# Altium footprint library My PCB Library.PcbLib: 24 footprints (part 2 of 2)
Each footprint in its own frame and in the unit in brackets; x right, y up, seen from the top. Pads: shape width x height; smd on the part's side, far side on the other; paste and mask are expansions set on the pad; w line width, h text height; cw(c..) or ccw(c..) is an arc to the next point about the centre after c.
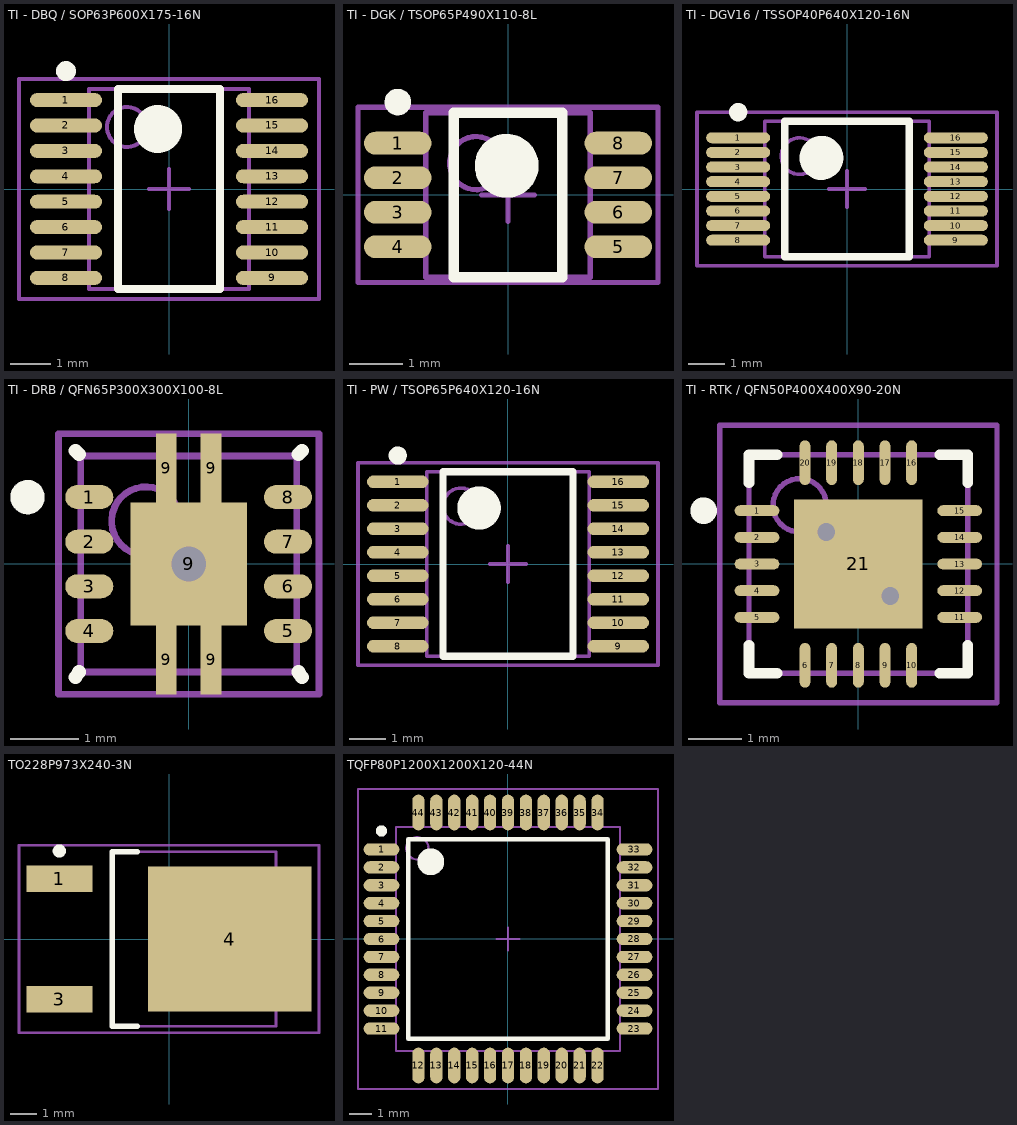
[diagram p1: the footprints below, top view; thin cyan lines are the x and y axes]

## TI - DBQ / SOP63P600X175-16N [mm] "SOP, 16-Leads, Body 5.0x4.0mm (max), Pitch 0.63mm, IPC Medium Density"
height 1.75
pads (16):
  oval 1.8x0.35 smd: 1(-2.575,2.222) 2(-2.575,1.587) 3(-2.575,0.953) 4(-2.575,0.318) 5(-2.575,-0.318) 6(-2.575,-0.953) 7(-2.575,-1.587) 8(-2.575,-2.222) 9(2.575,-2.222) 10(2.575,-1.587) 11(2.575,-0.953) 12(2.575,-0.318) 13(2.575,0.318) 14(2.575,0.953) 15(2.575,1.587) 16(2.575,2.222)
Top Overlay:
  circle w0.6: c-0.275,1.5 r0.3
  circle w0.25: c-2.575,2.947 r0.125
  lines w0.2: -1.275,-2.5 1.275,-2.5 1.275,2.5 -1.275,2.5 -1.275,-2.5
Mechanical 13:
  circle w0.1: c-1.05,1.55 r0.5
  lines w0.1: -2,-2.5 2,-2.5 2,2.5 -2,2.5 -2,-2.5
Mechanical 15:
  lines w0.1: -0.5,0 0.5,0 ; 0,-0.5 0,0.5 ; -3.75,-2.75 3.75,-2.75 3.75,2.75 -3.75,2.75 -3.75,-2.75
3D body: height 1.75, standoff 0.1, extent -2,-2.5 2,2.5

## TI - DGK / TSOP65P490X110-8L [mm] "TSOP, 8-Leads, Body 3.1x3.1mm (max), Pitch 0.65mm, IPC High Density"
height 1.1
pads (8):
  oval 1.27x0.432 smd: 1(-2.075,0.975) 2(-2.075,0.325) 3(-2.075,-0.325) 4(-2.075,-0.975) 5(2.075,-0.975) 6(2.075,-0.325) 7(2.075,0.325) 8(2.075,0.975)
Top Overlay:
  circle w0.6: c-0.025,0.55 r0.3
  circle w0.25: c-2.075,1.75 r0.125
  lines w0.2: -1.025,-1.55 1.025,-1.55 1.025,1.55 -1.025,1.55 -1.025,-1.55
Mechanical 13:
  circle w0.1: c-0.6,0.6 r0.5
  lines w0.1: -1.55,-1.55 1.55,-1.55 1.55,1.55 -1.55,1.55 -1.55,-1.55
Mechanical 15:
  lines w0.1: -0.5,0 0.5,0 ; 0,-0.5 0,0.5 ; -2.825,-1.65 2.825,-1.65 2.825,1.65 -2.825,1.65 -2.825,-1.65
3D body: height 1.1, standoff 0.25, extent -1.55,-1.55 1.55,1.55

## TI - DGV16 / TSSOP40P640X120-16N [mm] "TSSOP, 16-Leads, Body 3.7x4.5mm (max), Pitch 0.40mm, IPC Medium Density"
height 1.2
pads (16):
  oval 1.75x0.3 smd: 1(-2.975,1.4) 2(-2.975,1) 3(-2.975,0.6) 4(-2.975,0.2) 5(-2.975,-0.2) 6(-2.975,-0.6) 7(-2.975,-1) 8(-2.975,-1.4) 9(2.975,-1.4) 10(2.975,-1) 11(2.975,-0.6) 12(2.975,-0.2) 13(2.975,0.2) 14(2.975,0.6) 15(2.975,1) 16(2.975,1.4)
Top Overlay:
  circle w0.25: c-2.975,2.1 r0.125
  circle w0.6: c-0.7,0.85 r0.3
  lines w0.2: -1.7,-1.85 -1.7,1.85 1.7,1.85 1.7,-1.85 -1.7,-1.85
Mechanical 13:
  circle w0.1: c-1.3,0.9 r0.5
  lines w0.1: -2.25,-1.85 -2.25,1.85 2.25,1.85 2.25,-1.85 -2.25,-1.85
Mechanical 15:
  lines w0.1: -0.5,0 0.5,0 ; 0,-0.5 0,0.5 ; -4.1,-2.1 -4.1,2.1 4.1,2.1 4.1,-2.1 -4.1,-2.1
3D body: height 1.2, standoff 0.15, extent -2.25,-1.85 2.25,1.85

## TI - DRB / QFN65P300X300X100-8L [mm] "QFN, 8-Leads, Body 3.2x3.2mm (max), Pitch 0.65mm, IPC High Density"
height 1
pads (13):
  oval 0.7x0.35 smd: 1(-1.45,0.975) 2(-1.45,0.325) 3(-1.45,-0.325) 4(-1.45,-0.975) 5(1.45,-0.975) 6(1.45,-0.325) 7(1.45,0.325) 8(1.45,0.975)
  rect 0.3x1 smd: 9(-0.325,-1.4) 9(-0.325,1.4) 9(0.325,-1.4) 9(0.325,1.4)
  rect 1.7x1.8 smd: 9(0,0)
via 0,0 diameter 1.016 hole 0.508
Top Overlay:
  circle w0.25: c-2.35,0.975 r0.125
  lines w0.2: -1.651,-1.651 -1.6,-1.575 ; -1.651,1.651 -1.6,1.6 ; 1.6,-1.575 1.651,-1.651 ; 1.6,1.6 1.651,1.651
Mechanical 13:
  circle w0.1: c-0.625,0.625 r0.5
  lines w0.1: -1.575,-1.575 -1.575,1.575 1.575,1.575 1.575,-1.575 -1.575,-1.575
Mechanical 15:
  lines w0.1: -0.5,0 0.5,0 ; 0,-0.5 0,0.5 ; -1.9,-1.9 -1.9,1.9 1.9,1.9 1.9,-1.9 -1.9,-1.9
3D body: height 1, standoff 0.08, extent -1.575,-1.575 1.575,1.575

## TI - PW / TSOP65P640X120-16N [mm] "TSOP, 16-Leads, Body 5.1x4.5mm (max), Pitch 0.65mm, IPC Medium Density"
height 1.2
pads (16):
  oval 1.7x0.35 smd: 1(-3.05,2.275) 2(-3.05,1.625) 3(-3.05,0.975) 4(-3.05,0.325) 5(-3.05,-0.325) 6(-3.05,-0.975) 7(-3.05,-1.625) 8(-3.05,-2.275) 9(3.05,-2.275) 10(3.05,-1.625) 11(3.05,-0.975) 12(3.05,-0.325) 13(3.05,0.325) 14(3.05,0.975) 15(3.05,1.625) 16(3.05,2.275)
Top Overlay:
  circle w0.25: c-3.05,3 r0.125
  circle w0.6: c-0.8,1.55 r0.3
  lines w0.2: -1.8,-2.55 -1.8,2.55 1.8,2.55 1.8,-2.55 -1.8,-2.55
Mechanical 13:
  circle w0.1: c-1.3,1.6 r0.5
  lines w0.1: -2.25,-2.55 -2.25,2.55 2.25,2.55 2.25,-2.55 -2.25,-2.55
Mechanical 15:
  lines w0.1: -0.5,0 0.5,0 ; 0,-0.5 0,0.5 ; -4.15,-2.8 -4.15,2.8 4.15,2.8 4.15,-2.8 -4.15,-2.8
3D body: height 1.2, standoff 0.25, extent -2.25,-2.55 2.25,2.55

## TI - RTK / QFN50P400X400X90-20N [mil] "QFN, 20-Leads, Body 4.1x4.1mm (max), Pitch 0.50mm, IPC Medium Density"
height 35.43
pads (21):
  oval 33x8 smd: 1(-74.8,39.37) 2(-74.8,19.68) 3(-74.8,0) 4(-74.8,-19.69) 5(-74.8,-39.37) 11(74.8,-39.37) 12(74.8,-19.69) 13(74.8,0) 14(74.8,19.68) 15(74.8,39.37)
  oval 8x33 smd: 6(-39.37,-74.8) 7(-19.68,-74.8) 8(0,-74.8) 9(19.69,-74.8) 10(39.37,-74.8) 16(39.37,74.8) 17(19.69,74.8) 18(0,74.8) 19(-19.68,74.8) 20(-39.37,74.8)
  rect 95x95 smd: 21(0,0)
via 23.62,-23.62 diameter 25 hole 13
via -23.62,23.62 diameter 25 hole 13
Top Overlay:
  circle w9.84: c-114.17,39.37 r4.92
  lines w7.87: -80.71,-60.04 -80.71,-80.71 -60.04,-80.71 ; -80.71,60.04 -80.71,80.71 -60.04,80.71 ; 60.04,-80.71 80.71,-80.71 80.71,-60.04 ; 60.04,80.71 80.71,80.71 80.71,60.04
Mechanical 13:
  circle w3.94: c-43.31,43.31 r19.68
  lines w3.94: -80.71,-80.71 80.71,-80.71 80.71,80.71 -80.71,80.71 -80.71,-80.71
Mechanical 15:
  lines w3.94: -19.68,0 19.69,0 ; 0,-19.69 0,19.68 ; -102.36,-102.36 102.36,-102.36 102.36,102.36 -102.36,102.36 -102.36,-102.36
3D body: height 35.43, standoff 0, extent -80.71,-80.71 80.71,80.71

## TO228P973X240-3N [mm] "D-PAK, 3-Pads, Body 6.2x6.6mm (max), IPC Medium Density"
height 2.4
pads (3):
  rect 2.5x1 smd: 1(-4.15,2.28) 3(-4.15,-2.28)
  rect 6.2x5.5 smd: 4(2.3,0)
Top Overlay:
  circle w0.25: c-4.15,3.33 r0.125
  lines w0.2: -1.2,-3.3 -2.15,-3.3 -2.15,3.3 -1.2,3.3
Mechanical 13:
  lines w0.1: -2.15,-3.3 4.05,-3.3 4.05,3.3 -2.15,3.3 -2.15,-3.3
Mechanical 15:
  lines w0.1: -0.5,0 0.5,0 ; 0,-0.5 0,0.5 ; -5.675,-3.55 5.675,-3.55 5.675,3.55 -5.675,3.55 -5.675,-3.55
3D body: height 2.4, standoff 0.23, extent -2.15,-3.3 4.05,3.3

## TQFP80P1200X1200X120-44N [mm] "TQFP, 44-Leads, Body 12.0x12.0mm (max), Pitch 0.80mm, IPC Medium Density"
height 1.2
pads (44):
  oval 1.6x0.55 smd: 1(-5.65,4) 2(-5.65,3.2) 3(-5.65,2.4) 4(-5.65,1.6) 5(-5.65,0.8) 6(-5.65,0) 7(-5.65,-0.8) 8(-5.65,-1.6) 9(-5.65,-2.4) 10(-5.65,-3.2) 11(-5.65,-4) 23(5.65,-4) 24(5.65,-3.2) 25(5.65,-2.4) 26(5.65,-1.6) 27(5.65,-0.8) 28(5.65,0) 29(5.65,0.8) 30(5.65,1.6) 31(5.65,2.4) 32(5.65,3.2) 33(5.65,4)
  oval 0.55x1.6 smd: 12(-4,-5.65) 13(-3.2,-5.65) 14(-2.4,-5.65) 15(-1.6,-5.65) 16(-0.8,-5.65) 17(0,-5.65) 18(0.8,-5.65) 19(1.6,-5.65) 20(2.4,-5.65) 21(3.2,-5.65) 22(4,-5.65) 34(4,5.65) 35(3.2,5.65) 36(2.4,5.65) 37(1.6,5.65) 38(0.8,5.65) 39(0,5.65) 40(-0.8,5.65) 41(-1.6,5.65) 42(-2.4,5.65) 43(-3.2,5.65) 44(-4,5.65)
Top Overlay:
  circle w0.25: c-5.65,4.825 r0.125
  circle w0.6: c-3.45,3.45 r0.3
  lines w0.2: -4.45,-4.45 -4.45,4.45 4.45,4.45 4.45,-4.45 -4.45,-4.45
Mechanical 13:
  circle w0.1: c-4.05,4.05 r0.5
  lines w0.1: -5,-5 -5,5 5,5 5,-5 -5,-5
Mechanical 15:
  lines w0.1: -0.5,0 0.5,0 ; 0,-0.5 0,0.5 ; -6.7,-6.7 -6.7,6.7 6.7,6.7 6.7,-6.7 -6.7,-6.7
3D body: height 1.2, standoff 0.05, extent -5,-5 5,5